# Altium schematic symbol library RFM98W-433S2.SchLib: 1 symbol
Pins are listed as number, name and electrical type; pins without a type are passive.

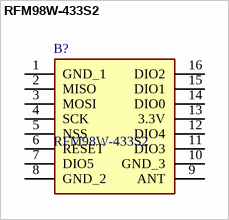
[diagram p0: symbol RFM98W-433S2]

## RFM98W-433S2
designator B?
RF Solutions RFM98W-433S2 RF Transceiver Module 433 MHz, 3.3V; Geometry.Height: 1.8mm; Manufacturer_Name: RF SOLUTIONS; Manufacturer_Part_Number: RFM98W-433S2; Mouser Part Number: 223-RFM98W-433S2; Mouser Price/Stock: https://www.mouser.co.uk/ProductDetail/RF-Solutions/RFM98W-433S2?qs=OlC7AqGiEDlY9molZxTrLQ%3D%3D; Arrow Part Number: *; Arrow Price/Stock: *; Datasheet Link: https://datasheet.datasheetarchive.com/originals/distributors/DKDS-13/248812.pdf
footprint RFM98W433S2
pins: 1 GND_1, 2 MISO, 3 MOSI, 4 SCK, 5 NSS, 6 RESET, 7 DIO5, 8 GND_2, 9 ANT, 10 GND_3, 11 DIO3, 12 DIO4, 13 3.3V, 14 DIO0, 15 DIO1, 16 DIO2